# Altium integrated library TUNA_Altium_Lib.IntLib: 69 symbols (part 2 of 2)

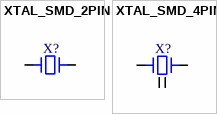
[diagram p23: symbols XTAL_SMD_2PIN to XTAL_SMD_4PIN]

## XTAL_SMD_2PIN
designator X?, comment XTAL  (value not drawn)
Crystal SMD 2 pin; Distributor Link: *
footprint XTAL_3215-2
pins: 1, 2

## XTAL_SMD_4PIN
designator X?, comment XTAL_2016  (value not drawn)
Crystal SMD 4-Pin 2.0x1.6mm; Distributor Link: *
footprint XTAL_2016
footprint XTAL_2016
pins: 1, 2, 3, 4